# Altium footprint library RES2010.PcbLib: 1 footprints
Each footprint in its own frame and in the unit in brackets; x right, y up, seen from the top. Pads: shape width x height; smd on the part's side, far side on the other; paste and mask are expansions set on the pad; w line width, h text height; cw(c..) or ccw(c..) is an arc to the next point about the centre after c.
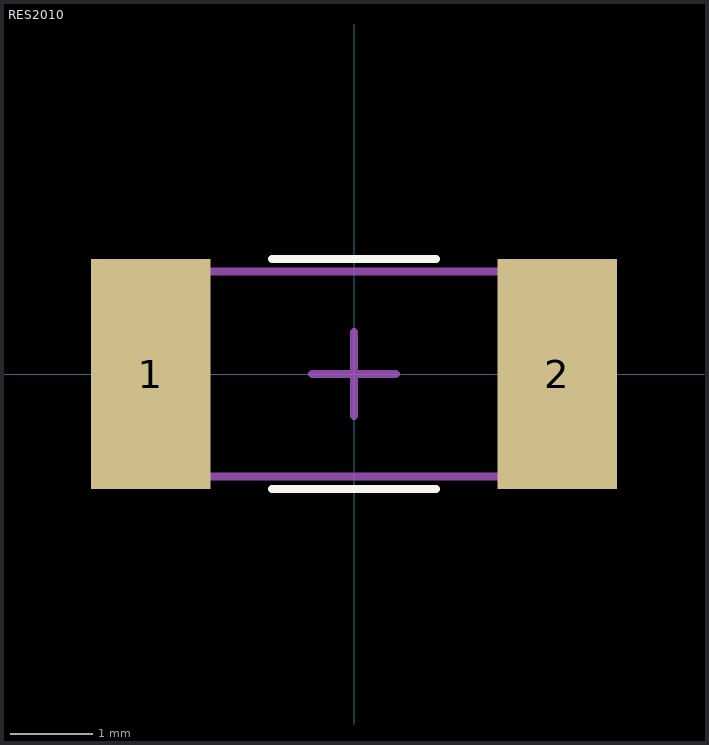
[diagram p0: the footprint, top view; thin cyan lines are the x and y axes]

## RES2010 [mm] "Generic 2010 Footprint"
pads (2):
  rect 1.45x2.8 smd mask+0: 1(-2.475,0) 2(2.475,0)
Top Overlay:
  lines w0.1: -1,-1.4 1,-1.4 ; -1,1.4 1,1.4
Top Designator:
  text ".Designator" at -7.618,-0.508 h1.52
Mechanical 13:
  lines w0.1: -2.5,-1.25 2.5,-1.25 2.5,1.25 -2.5,1.25 -2.5,-1.25
Mechanical 15:
  lines w0.1: -0.508,0 0.508,0 ; 0,-0.508 0,0.508
3D body "RES2010.stp": height 0.55, standoff 0, extent -2.5,-1.25 2.5,1.25